# Altium footprint library Synthiam.PcbLib: 481 footprints (part 8 of 31)
Each footprint in its own frame and in the unit in brackets; x right, y up, seen from the top. Pads: shape width x height; smd on the part's side, far side on the other; paste and mask are expansions set on the pad; w line width, h text height; cw(c..) or ccw(c..) is an arc to the next point about the centre after c.
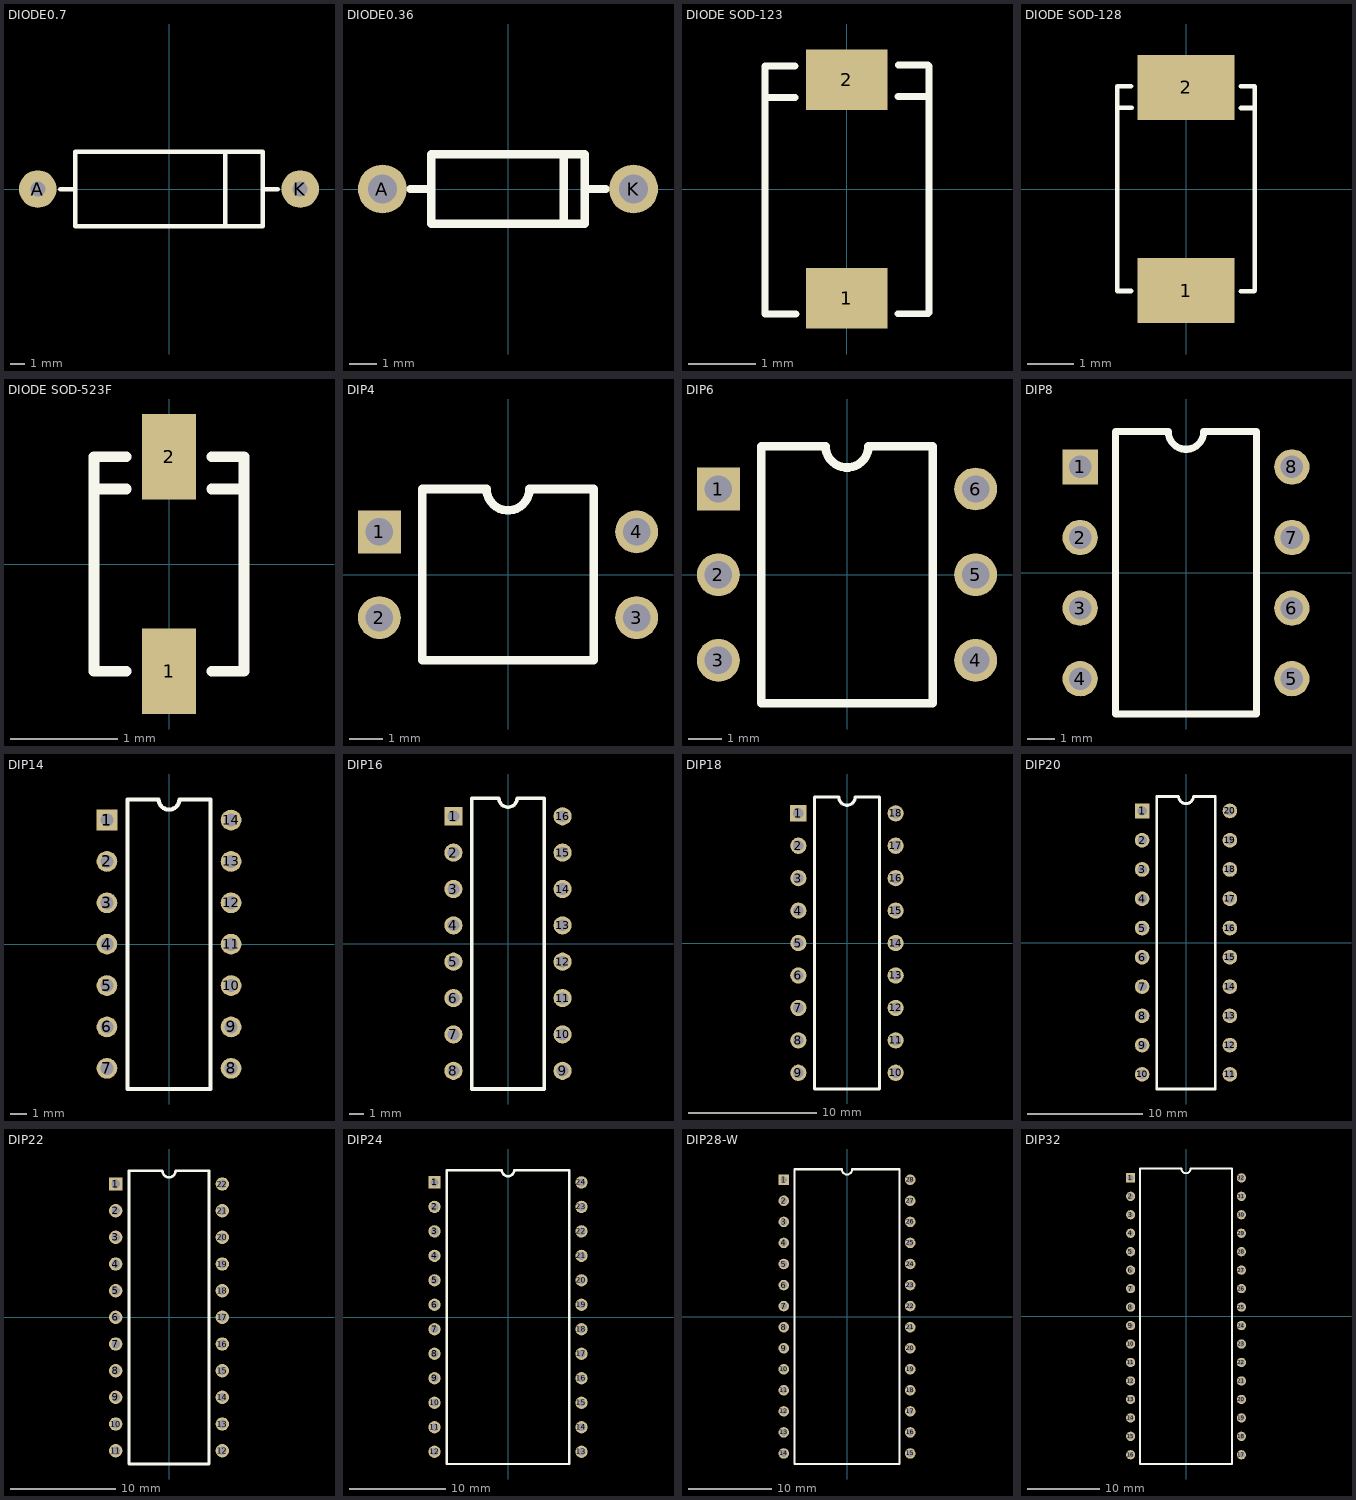
[diagram p7: the footprints below, top view; thin cyan lines are the x and y axes]

## DIODE0.7 [mil]
pads (2):
  round 100 hole 40: A(-350,0) K(350,0)
Top Overlay:
  lines w12: -290,0 -250,0 ; 150,-100 150,100 ; 250,0 290,0 ; -250,-100 250,-100 250,100 -250,100 -250,-100

## DIODE0.36 [mil]
pads (2):
  round 70 hole 42: A(-180,0) K(180,0)
Top Overlay:
  lines w12: -140,0 -110,0 ; 80,-50 80,50 ; 110,0 140,0 ; -110,-50 -110,50 110,50 110,-50 -110,-50

## DIODE SOD-123 [mm]
pads (2):
  rect 1.22x0.91 smd: 1(0,-1.635) 2(0,1.635)
Top Overlay:
  lines w0.1: -1.225,-1.87 -0.76,-1.87 ; -1.225,-1.86 -1.225,1.84 -0.775,1.84 ; -1.21,1.37 -0.77,1.37 ; 0.765,-1.865 1.215,-1.865 ; 0.765,1.385 1.23,1.385 ; 0.77,1.855 1.215,1.855 ; 1.23,-1.85 1.23,1.84

## DIODE SOD-128 [mm]
pads (2):
  rect 2.1x1.4 smd: 1(0,-2.2) 2(0,2.2)
Top Overlay:
  lines w0.1: -1.495,-2.21 -1.195,-2.21 ; -1.495,-2.2 -1.495,2.225 ; -1.495,2.23 -1.195,2.23 ; -1.48,1.76 -1.18,1.76 ; 1.18,-2.215 1.475,-2.215 ; 1.18,2.225 1.475,2.225 ; 1.19,1.755 1.49,1.755 ; 1.49,-2.205 1.49,2.22

## DIODE SOD-523F [mm] "DIODE SMD SOD-523F 0.7 x 0.9 x 1.3 (HxWxL) mm"
height 0.7
pads (2):
  rect 0.5x0.8 smd: 1(0,-1) 2(0,1)
Top Overlay:
  lines w0.1: -0.7,0.7 -0.4,0.7 ; -0.4,-1 -0.7,-1 -0.7,1 -0.4,1 ; 0.4,-1 0.7,-1 0.7,1 0.4,1 ; 0.4,0.7 0.7,0.7

## DIP4 [mil]
pads (4):
  rect 50x50 hole 32: 1(-150,50)
  round 50 hole 32: 2(-150,-50) 3(150,-50) 4(150,50)
Top Overlay:
  lines w10: -100,-100 -100,100 -25,100 ccw(c0,100) 25,100 100,100 100,-100 -100,-100

## DIP6 [mil]
pads (6):
  rect 50x50 hole 32: 1(-150,100)
  round 50 hole 32: 2(-150,0) 3(-150,-100) 4(150,-100) 5(150,0) 6(150,100)
Top Overlay:
  lines w10: -100,-150 -100,150 -25,150 ccw(c0,150) 25,150 100,150 100,-150 -100,-150

## DIP8 [mil]
pads (8):
  rect 50x50 hole 32: 1(-150,150)
  round 50 hole 32: 2(-150,50) 3(-150,-50) 4(-150,-150) 5(150,-150) 6(150,-50) 7(150,50) 8(150,150)
Top Overlay:
  lines w10: -100,-200 100,-200 100,200 25,200 cw(c0,200) -25,200 -100,200 -100,-200

## DIP14 [mil]
pads (14):
  rect 50x50 hole 32: 1(-150,300)
  round 50 hole 32: 2(-150,200) 3(-150,100) 4(-150,0) 5(-150,-100) 6(-150,-200) 7(-150,-300) 8(150,-300) 9(150,-200) 10(150,-100) 11(150,0) 12(150,100) 13(150,200) 14(150,300)
Top Overlay:
  lines w10: -100,-350 100,-350 100,350 25,350 cw(c0,350) -25,350 -100,350 -100,-350

## DIP16 [mil]
pads (16):
  rect 50x50 hole 32: 1(-150,350)
  round 50 hole 32: 2(-150,250) 3(-150,150) 4(-150,50) 5(-150,-50) 6(-150,-150) 7(-150,-250) 8(-150,-350) 9(150,-350) 10(150,-250) 11(150,-150) 12(150,-50) 13(150,50) 14(150,150) 15(150,250) 16(150,350)
Top Overlay:
  lines w10: -100,-400 100,-400 100,400 25,400 cw(c0,400) -25,400 -100,400 -100,-400

## DIP18 [mil]
pads (18):
  rect 50x50 hole 32: 1(-150,400)
  round 50 hole 32: 2(-150,300) 3(-150,200) 4(-150,100) 5(-150,0) 6(-150,-100) 7(-150,-200) 8(-150,-300) 9(-150,-400) 10(150,-400) 11(150,-300) 12(150,-200) 13(150,-100) 14(150,0) 15(150,100) 16(150,200) 17(150,300) 18(150,400)
Top Overlay:
  lines w10: -100,-450 100,-450 100,450 25,450 cw(c0,450) -25,450 -100,450 -100,-450

## DIP20 [mil]
pads (20):
  rect 50x50 hole 32: 1(-150,450)
  round 50 hole 32: 2(-150,350) 3(-150,250) 4(-150,150) 5(-150,50) 6(-150,-50) 7(-150,-150) 8(-150,-250) 9(-150,-350) 10(-150,-450) 11(150,-450) 12(150,-350) 13(150,-250) 14(150,-150) 15(150,-50) 16(150,50) 17(150,150) 18(150,250) 19(150,350) 20(150,450)
Top Overlay:
  lines w10: -100,-500 100,-500 100,500 25,500 cw(c0,500) -25,500 -100,500 -100,-500

## DIP22 [mil]
pads (22):
  rect 50x50 hole 32: 1(-200,500)
  round 50 hole 32: 2(-200,400) 3(-200,300) 4(-200,200) 5(-200,100) 6(-200,0) 7(-200,-100) 8(-200,-200) 9(-200,-300) 10(-200,-400) 11(-200,-500) 12(200,-500) 13(200,-400) 14(200,-300) 15(200,-200) 16(200,-100) 17(200,0) 18(200,100) 19(200,200) 20(200,300) 21(200,400) 22(200,500)
Top Overlay:
  lines w10: -150,-550 -150,550 -25,550 ccw(c0,550) 25,550 150,550 150,-550 -150,-550

## DIP24 [mil]
pads (24):
  rect 50x50 hole 32: 1(-300,550)
  round 50 hole 32: 2(-300,450) 3(-300,350) 4(-300,250) 5(-300,150) 6(-300,50) 7(-300,-50) 8(-300,-150) 9(-300,-250) 10(-300,-350) 11(-300,-450) 12(-300,-550) 13(300,-550) 14(300,-450) 15(300,-350) 16(300,-250) 17(300,-150) 18(300,-50) 19(300,50) 20(300,150) 21(300,250) 22(300,350) 23(300,450) 24(300,550)
Top Overlay:
  lines w10: -250,-600 250,-600 250,600 25,600 cw(c0,600) -25,600 -250,600 -250,-600

## DIP28-W [mil] "DIP28 Wide"
pads (28):
  rect 50x50 hole 32: 1(-300,650)
  round 50 hole 32: 2(-300,550) 3(-300,450) 4(-300,350) 5(-300,250) 6(-300,150) 7(-300,50) 8(-300,-50) 9(-300,-150) 10(-300,-250) 11(-300,-350) 12(-300,-450) 13(-300,-550) 14(-300,-650) 15(300,-650) 16(300,-550) 17(300,-450) 18(300,-350) 19(300,-250) 20(300,-150) 21(300,-50) 22(300,50) 23(300,150) 24(300,250) 25(300,350) 26(300,450) 27(300,550) 28(300,650)
Top Overlay:
  lines w10: -250,-700 250,-700 250,700 25,700 cw(c0,700) -25,700 -250,700 -250,-700

## DIP32 [mil]
pads (32):
  rect 50x50 hole 32: 1(-300,750)
  round 50 hole 32: 2(-300,650) 3(-300,550) 4(-300,450) 5(-300,350) 6(-300,250) 7(-300,150) 8(-300,50) 9(-300,-50) 10(-300,-150) 11(-300,-250) 12(-300,-350) 13(-300,-450) 14(-300,-550) 15(-300,-650) 16(-300,-750) 17(300,-750) 18(300,-650) 19(300,-550) 20(300,-450) 21(300,-350) 22(300,-250) 23(300,-150) 24(300,-50) 25(300,50) 26(300,150) 27(300,250) 28(300,350) 29(300,450) 30(300,550) 31(300,650) 32(300,750)
Top Overlay:
  lines w10: -250,-800 250,-800 250,800 25,800 cw(c0,800) -25,800 -250,800 -250,-800